# EAGLE library part XMOS_AVB_BRD_V4_CON-MOLEX_52559-3092 (library xmos_avb_brd_V4)
FFC/FPC-to-Board 0.50mm (.020") SMT, Vertical, ZIF Receptacle Source: http://www.molex.com/product/ffc/52559.html
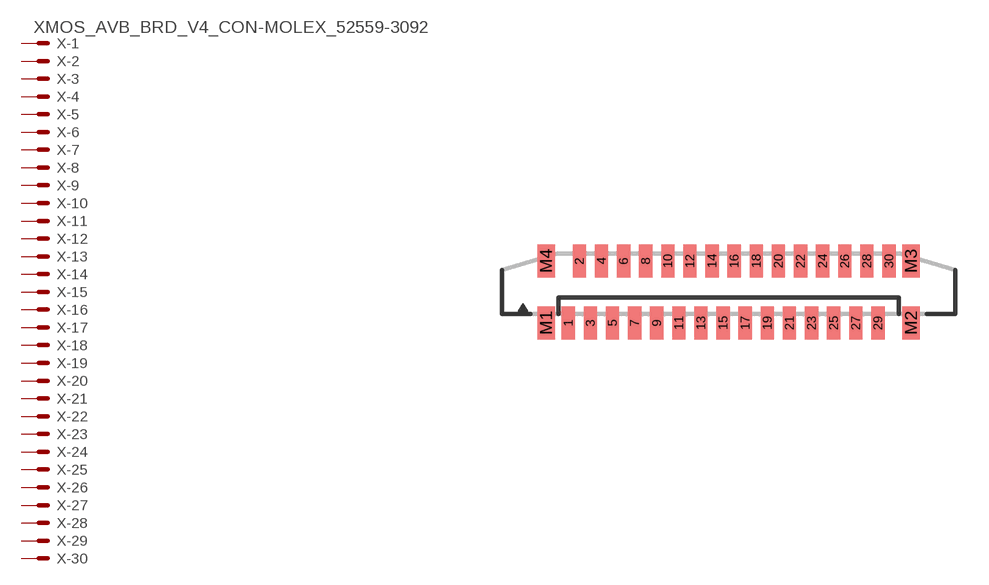
[diagram p5: symbol with the pads of XMOS_AVB_BRD_V4_CON-MOLEX_52559-3092; footprint XMOS_AVB_BRD_V4_CON-MOLEX_52559-3092]

Designator prefix X; gates -1=XMOS_AVB_BRD_V4_CON-MOLEX_MV -2=XMOS_AVB_BRD_V4_CON-MOLEX_M -3=XMOS_AVB_BRD_V4_CON-MOLEX_M -4=XMOS_AVB_BRD_V4_CON-MOLEX_M -5=XMOS_AVB_BRD_V4_CON-MOLEX_M -6=XMOS_AVB_BRD_V4_CON-MOLEX_M -7=XMOS_AVB_BRD_V4_CON-MOLEX_M -8=XMOS_AVB_BRD_V4_CON-MOLEX_M -9=XMOS_AVB_BRD_V4_CON-MOLEX_M -10=XMOS_AVB_BRD_V4_CON-MOLEX_M -11=XMOS_AVB_BRD_V4_CON-MOLEX_M -12=XMOS_AVB_BRD_V4_CON-MOLEX_M -13=XMOS_AVB_BRD_V4_CON-MOLEX_M -14=XMOS_AVB_BRD_V4_CON-MOLEX_M -15=XMOS_AVB_BRD_V4_CON-MOLEX_M -16=XMOS_AVB_BRD_V4_CON-MOLEX_M -17=XMOS_AVB_BRD_V4_CON-MOLEX_M -18=XMOS_AVB_BRD_V4_CON-MOLEX_M -19=XMOS_AVB_BRD_V4_CON-MOLEX_M -20=XMOS_AVB_BRD_V4_CON-MOLEX_M -21=XMOS_AVB_BRD_V4_CON-MOLEX_M -22=XMOS_AVB_BRD_V4_CON-MOLEX_M -23=XMOS_AVB_BRD_V4_CON-MOLEX_M -24=XMOS_AVB_BRD_V4_CON-MOLEX_M -25=XMOS_AVB_BRD_V4_CON-MOLEX_M -26=XMOS_AVB_BRD_V4_CON-MOLEX_M -27=XMOS_AVB_BRD_V4_CON-MOLEX_M -28=XMOS_AVB_BRD_V4_CON-MOLEX_M -29=XMOS_AVB_BRD_V4_CON-MOLEX_M -30=XMOS_AVB_BRD_V4_CON-MOLEX_M

## XMOS_AVB_BRD_V4_CON-MOLEX_52559-3092 (MF: MOLEX; MF2: WÜRTH; MPN: 52559-3072; MPN2: 687330124422)  [XMOS_AVB_BRD_V4_CON-MOLEX_52559-3092]
1  -1:S  pas
2  -2:S  pas
3  -3:S  pas
4  -4:S  pas
5  -5:S  pas
6  -6:S  pas
7  -7:S  pas
8  -8:S  pas
9  -9:S  pas
10  -10:S  pas
11  -11:S  pas
12  -12:S  pas
13  -13:S  pas
14  -14:S  pas
15  -15:S  pas
16  -16:S  pas
17  -17:S  pas
18  -18:S  pas
19  -19:S  pas
20  -20:S  pas
21  -21:S  pas
22  -22:S  pas
23  -23:S  pas
24  -24:S  pas
25  -25:S  pas
26  -26:S  pas
27  -27:S  pas
28  -28:S  pas
29  -29:S  pas
30  -30:S  pas

## Footprint XMOS_AVB_BRD_V4_CON-MOLEX_52559-3092 (pad centres in mm)
Easy-On™ Type FFC/FPC Connector, Vertical, Surface Mount, ZIF, 30 Circuits, Gold (Au) Contact Plating, High Barrier Packaging Datasheet <http://www.molex.com/pdm_docs/sd/525593052_sd.pdf>
smd 0.6 x 1.5: 1 -7.25,-1.4; 2 -6.75,1.4; 3 -6.25,-1.4; 4 -5.75,1.4; 5 -5.25,-1.4; 6 -4.75,1.4; 7 -4.25,-1.4; 8 -3.75,1.4; 9 -3.25,-1.4; 10 -2.75,1.4; 11 -2.25,-1.4; 12 -1.75,1.4; 13 -1.25,-1.4; 14 -0.75,1.4; 15 -0.25,-1.4; 16 0.25,1.4; 17 0.75,-1.4; 18 1.25,1.4; 19 1.75,-1.4; 20 2.25,1.4; 21 2.75,-1.4; 22 3.25,1.4; 23 3.75,-1.4; 24 4.25,1.4; 25 4.75,-1.4; 26 5.25,1.4; 27 5.75,-1.4; 28 6.25,1.4; 29 6.75,-1.4; 30 7.25,1.4
smd 0.8 x 1.5: M1 -8.25,-1.4; M2 8.25,-1.4; M3 8.25,1.4; M4 -8.25,1.4